# EAGLE library part FUSE-BOX (library unicorn)
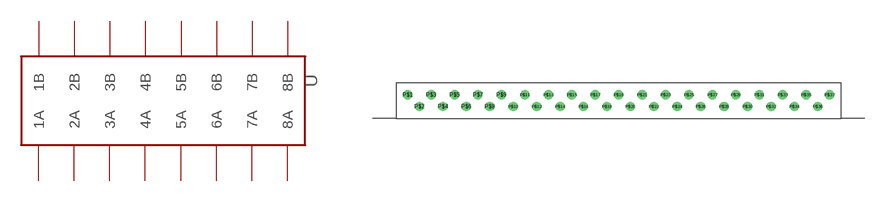
[diagram p5: symbol with the pads of SYSTEM-37; footprint SYSTEM-37]

Designator prefix -

## FUSE-BOX  [SYSTEM-37]
P$1  1A  pwr
P$2  1B  pwr
P$3  2A  pwr
P$4  2B  pwr
P$5  3A  pwr
P$6  3B  pwr
P$7  4A  pwr
P$8  4B  pwr
P$9  5A  pwr
P$10  5B  pwr
P$11  6A  pwr
P$12  6B  pwr
P$13  7A  pwr
P$14  7B  pwr
P$15  8A  pwr
P$16  8B  pwr

## Footprint SYSTEM-37 (pad centres in mm)
drill 0.5 round: P$1 -13.97,1.27; P$2 -12.7,0; P$3 -11.43,1.27; P$4 -10.16,0; P$5 -8.89,1.27; P$6 -7.62,0; P$7 -6.35,1.27; P$8 -5.08,0; P$9 -3.81,1.27; P$10 -2.54,0; P$11 -1.27,1.27; P$12 0,0; P$13 1.27,1.27; P$14 2.54,0; P$15 3.81,1.27; P$16 5.08,0; P$17 6.35,1.27; P$18 7.62,0; P$19 8.89,1.27; P$20 10.16,0; P$21 11.43,1.27; P$22 12.7,0; P$23 13.97,1.27; P$24 15.24,0; P$25 16.51,1.27; P$26 17.78,0; P$27 19.05,1.27; P$28 20.32,0; P$29 21.59,1.27; P$30 22.86,0; P$31 24.13,1.27; P$32 25.4,0; P$33 26.67,1.27; P$34 27.94,0; P$35 29.21,1.27; P$36 30.48,0; P$37 31.75,1.27